# Altium schematic symbol library msp430.SchLib: 7 symbols
Pins are listed as number, name and electrical type; pins without a type are passive.

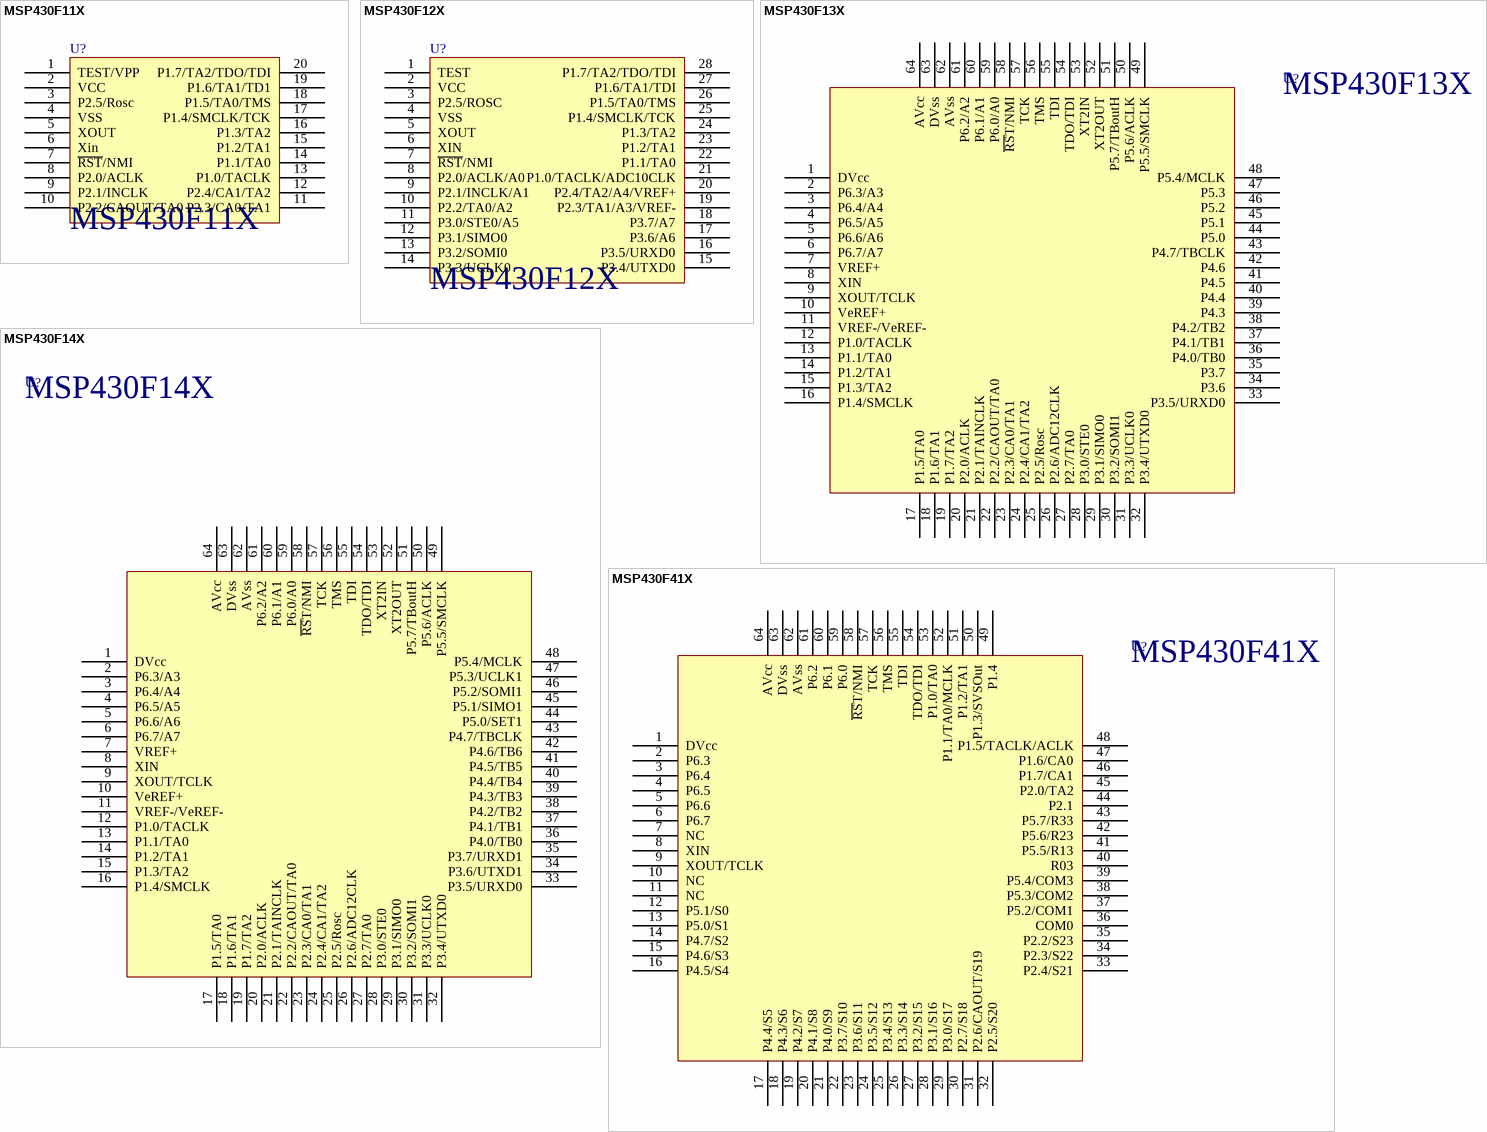
[diagram p0: symbols MSP430F11X to MSP430F41X]

## MSP430F11X
designator U?
footprint MSP11X
pins: 1 TEST/VPP, 2 VCC (power), 3 P2.5/Rosc (power), 4 VSS (power), 5 XOUT (power), 6 Xin (power), 7 ~{RST}/NMI (power), 8 P2.0/ACLK (power), 9 P2.1/INCLK (power), 10 P2.2/CAOUT/TA0 (power), 11 P2.3/CA0/TA1 (power), 12 P2.4/CA1/TA2 (power), 13 P1.0/TACLK (power), 14 P1.1/TA0 (power), 15 P1.2/TA1 (power), 16 P1.3/TA2 (power), 17 P1.4/SMCLK/TCK (power), 18 P1.5/TA0/TMS (power), 19 P1.6/TA1/TD1 (power), 20 P1.7/TA2/TDO/TDI (power)

## MSP430F12X
designator U?
footprint MSP12X
pins: 1 TEST, 2 VCC, 3 P2.5/ROSC, 4 VSS, 5 XOUT, 6 XIN, 7 ~{RST}/NMI, 8 P2.0/ACLK/A0, 9 P2.1/INCLK/A1, 10 P2.2/TA0/A2, 11 P3.0/STE0/A5, 12 P3.1/SIMO0, 13 P3.2/SOMI0, 14 P3.3/UCLK0, 15 P3.4/UTXD0, 16 P3.5/URXD0, 17 P3.6/A6, 18 P3.7/A7, 19 P2.3/TA1/A3/VREF-, 20 P2.4/TA2/A4/VREF+, 21 P1.0/TACLK/ADC10CLK, 22 P1.1/TA0, 23 P1.2/TA1, 24 P1.3/TA2, 25 P1.4/SMCLK/TCK, 26 P1.5/TA0/TMS, 27 P1.6/TA1/TDI, 28 P1.7/TA2/TDO/TDI

## MSP430F13X
designator U?
footprint MSP41X
pins: 1 DVcc (power), 2 P6.3/A3 (power), 3 P6.4/A4 (power), 4 P6.5/A5 (power), 5 P6.6/A6 (power), 6 P6.7/A7 (power), 7 VREF+ (power), 8 XIN (power), 9 XOUT/TCLK (power), 10 VeREF+ (power), 11 VREF-/VeREF- (power), 12 P1.0/TACLK (power), 13 P1.1/TA0 (power), 14 P1.2/TA1 (power), 15 P1.3/TA2 (power), 16 P1.4/SMCLK (power), 17 P1.5/TA0 (power), 18 P1.6/TA1 (power), 19 P1.7/TA2 (power), 20 P2.0/ACLK (power), 21 P2.1/TAINCLK (power), 22 P2.2/CAOUT/TA0 (power), 23 P2.3/CA0/TA1 (power), 24 P2.4/CA1/TA2 (power), 25 P2.5/Rosc (power), 26 P2.6/ADC12CLK (power), 27 P2.7/TA0 (power), 28 P3.0/STE0 (power), 29 P3.1/SIMO0 (power), 30 P3.2/SOMI1 (power), 31 P3.3/UCLK0 (power), 32 P3.4/UTXD0 (power), 33 P3.5/URXD0 (power), 34 P3.6 (power), 35 P3.7 (power), 36 P4.0/TB0 (power), 37 P4.1/TB1 (power), 38 P4.2/TB2 (power), 39 P4.3 (power), 40 P4.4 (power), 41 P4.5 (power), 42 P4.6 (power), 43 P4.7/TBCLK (power), 44 P5.0 (power), 45 P5.1 (power), 46 P5.2 (power), 47 P5.3 (power), 48 P5.4/MCLK (power), 49 P5.5/SMCLK (power), 50 P5.6/ACLK (power), 51 P5.7/TBoutH (power), 52 XT2OUT (power), 53 XT2IN (power), 54 TDO/TDI (power), 55 TDI (power), 56 TMS (power), 57 TCK (power), 58 ~{RS}T/NMI (power), 59 P6.0/A0 (power), 60 P6.1/A1 (power), 61 P6.2/A2 (power), 62 AVss (power), 63 DVss (power), 64 AVcc (power)

## MSP430F14X
designator U?
footprint SQFP50P1200X1200-64N (Shrink QFP, 64-Leads, Body 10x10mm, Pitch 0.5mm, IPC Medium Density)
pins: 1 DVcc (power), 2 P6.3/A3 (power), 3 P6.4/A4 (power), 4 P6.5/A5 (power), 5 P6.6/A6 (power), 6 P6.7/A7 (power), 7 VREF+ (power), 8 XIN (power), 9 XOUT/TCLK (power), 10 VeREF+ (power), 11 VREF-/VeREF- (power), 12 P1.0/TACLK (power), 13 P1.1/TA0 (power), 14 P1.2/TA1 (power), 15 P1.3/TA2 (power), 16 P1.4/SMCLK (power), 17 P1.5/TA0 (power), 18 P1.6/TA1 (power), 19 P1.7/TA2 (power), 20 P2.0/ACLK (power), 21 P2.1/TAINCLK (power), 22 P2.2/CAOUT/TA0 (power), 23 P2.3/CA0/TA1 (power), 24 P2.4/CA1/TA2 (power), 25 P2.5/Rosc (power), 26 P2.6/ADC12CLK (power), 27 P2.7/TA0 (power), 28 P3.0/STE0 (power), 29 P3.1/SIMO0 (power), 30 P3.2/SOMI1 (power), 31 P3.3/UCLK0 (power), 32 P3.4/UTXD0 (power), 33 P3.5/URXD0 (power), 34 P3.6/UTXD1 (power), 35 P3.7/URXD1 (power), 36 P4.0/TB0 (power), 37 P4.1/TB1 (power), 38 P4.2/TB2 (power), 39 P4.3/TB3 (power), 40 P4.4/TB4 (power), 41 P4.5/TB5 (power), 42 P4.6/TB6 (power), 43 P4.7/TBCLK (power), 44 P5.0/SET1 (power), 45 P5.1/SIMO1 (power), 46 P5.2/SOMI1 (power), 47 P5.3/UCLK1 (power), 48 P5.4/MCLK (power), 49 P5.5/SMCLK (power), 50 P5.6/ACLK (power), 51 P5.7/TBoutH (power), 52 XT2OUT (power), 53 XT2IN (power), 54 TDO/TDI (power), 55 TDI (power), 56 TMS (power), 57 TCK (power), 58 ~{RS}T/NMI (power), 59 P6.0/A0 (power), 60 P6.1/A1 (power), 61 P6.2/A2 (power), 62 AVss (power), 63 DVss (power), 64 AVcc (power)

## MSP430F41X
designator U?
footprint MSP41X
pins: 1 DVcc (power), 2 P6.3 (power), 3 P6.4 (power), 4 P6.5 (power), 5 P6.6 (power), 6 P6.7 (power), 7 NC (power), 8 XIN (power), 9 XOUT/TCLK (power), 10 NC (power), 11 NC (power), 12 P5.1/S0 (power), 13 P5.0/S1 (power), 14 P4.7/S2 (power), 15 P4.6/S3 (power), 16 P4.5/S4 (power), 17 P4.4/S5 (power), 18 P4.3/S6 (power), 19 P4.2/S7 (power), 20 P4.1/S8 (power), 21 P4.0/S9 (power), 22 P3.7/S10 (power), 23 P3.6/S11 (power), 24 P3.5/S12 (power), 25 P3.4/S13 (power), 26 P3.3/S14 (power), 27 P3.2/S15 (power), 28 P3.1/S16 (power), 29 P3.0/S17 (power), 30 P2.7/S18 (power), 31 P2.6/CAOUT/S19 (power), 32 P2.5/S20 (power), 33 P2.4/S21 (power), 34 P2.3/S22 (power), 35 P2.2/S23 (power), 36 COM0 (power), 37 P5.2/COM1 (power), 38 P5.3/COM2 (power), 39 P5.4/COM3 (power), 40 R03 (power), 41 P5.5/R13 (power), 42 P5.6/R23 (power), 43 P5.7/R33 (power), 44 P2.1 (power), 45 P2.0/TA2 (power), 46 P1.7/CA1 (power), 47 P1.6/CA0 (power), 48 P1.5/TACLK/ACLK (power), 49 P1.4 (power), 50 P1.3/SVSOut (power), 51 P1.2/TA1 (power), 52 P1.1/TA0/MCLK (power), 53 P1.0/TA0 (power), 54 TDO/TDI (power), 55 TDI (power), 56 TMS (power), 57 TCK (power), 58 ~{RS}T/NMI (power), 59 P6.0 (power), 60 P6.1 (power), 61 P6.2 (power), 62 AVss (power), 63 DVss (power), 64 AVcc (power)

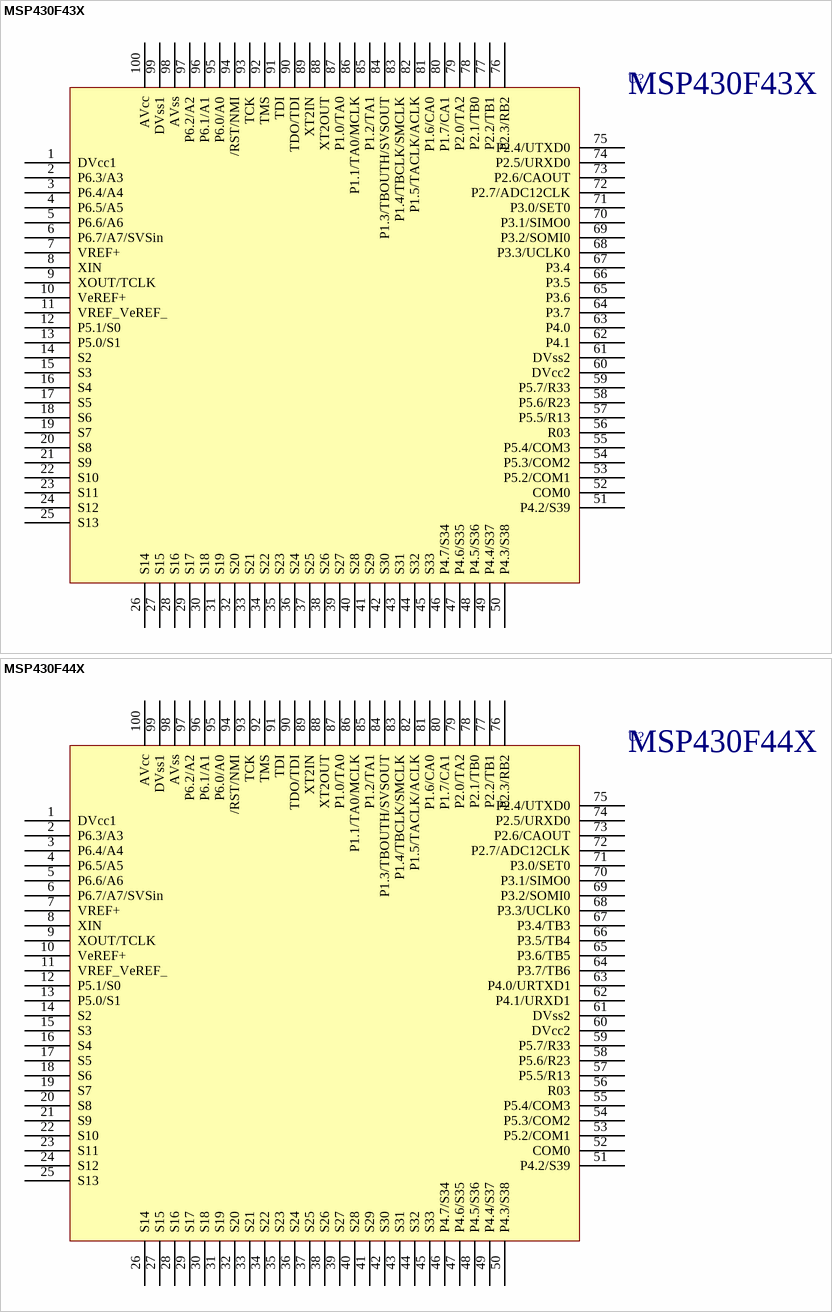
[diagram p1: symbols MSP430F43X to MSP430F44X]

## MSP430F43X
designator U?
footprint TQFP100
pins: 1 DVcc1, 2 P6.3/A3, 3 P6.4/A4, 4 P6.5/A5, 5 P6.6/A6, 6 P6.7/A7/SVSin, 7 VREF+, 8 XIN, 9 XOUT/TCLK, 10 VeREF+, 11 VREF_VeREF_, 12 P5.1/S0, 13 P5.0/S1, 14 S2, 15 S3, 16 S4, 17 S5, 18 S6, 19 S7, 20 S8, 21 S9, 22 S10, 23 S11, 24 S12, 25 S13, 26 S14, 27 S15, 28 S16, 29 S17, 30 S18, 31 S19, 32 S20, 33 S21, 34 S22, 35 S23, 36 S24, 37 S25, 38 S26, 39 S27, 40 S28, 41 S29, 42 S30, 43 S31, 44 S32, 45 S33, 46 P4.7/S34, 47 P4.6/S35, 48 P4.5/S36, 49 P4.4/S37, 50 P4.3/S38, 51 P4.2/S39, 52 COM0, 53 P5.2/COM1, 54 P5.3/COM2, 55 P5.4/COM3, 56 R03, 57 P5.5/R13, 58 P5.6/R23, 59 P5.7/R33, 60 DVcc2, 61 DVss2, 62 P4.1, 63 P4.0, 64 P3.7, 65 P3.6, 66 P3.5, 67 P3.4, 68 P3.3/UCLK0, 69 P3.2/SOMI0, 70 P3.1/SIMO0, 71 P3.0/SET0, 72 P2.7/ADC12CLK, 73 P2.6/CAOUT, 74 P2.5/URXD0, 75 P2.4/UTXD0, 76 P2.3/RB2, 77 P2.2/TB1, 78 P2.1/TB0, 79 P2.0/TA2, 80 P1.7/CA1, 81 P1.6/CA0, 82 P1.5/TACLK/ACLK, 83 P1.4/TBCLK/SMCLK, 84 P1.3/TBOUTH/SVSOUT, 85 P1.2/TA1, 86 P1.1/TA0/MCLK, 87 P1.0/TA0, 88 XT2OUT, 89 XT2IN, 90 TDO/TDI, 91 TDI, 92 TMS, 93 TCK, 94 /RST/NMI, 95 P6.0/A0, 96 P6.1/A1, 97 P6.2/A2, 98 AVss, 99 DVss1, 100 AVcc

## MSP430F44X
designator U?
footprint TQFP100
pins: 1 DVcc1, 2 P6.3/A3, 3 P6.4/A4, 4 P6.5/A5, 5 P6.6/A6, 6 P6.7/A7/SVSin, 7 VREF+, 8 XIN, 9 XOUT/TCLK, 10 VeREF+, 11 VREF_VeREF_, 12 P5.1/S0, 13 P5.0/S1, 14 S2, 15 S3, 16 S4, 17 S5, 18 S6, 19 S7, 20 S8, 21 S9, 22 S10, 23 S11, 24 S12, 25 S13, 26 S14, 27 S15, 28 S16, 29 S17, 30 S18, 31 S19, 32 S20, 33 S21, 34 S22, 35 S23, 36 S24, 37 S25, 38 S26, 39 S27, 40 S28, 41 S29, 42 S30, 43 S31, 44 S32, 45 S33, 46 P4.7/S34, 47 P4.6/S35, 48 P4.5/S36, 49 P4.4/S37, 50 P4.3/S38, 51 P4.2/S39, 52 COM0, 53 P5.2/COM1, 54 P5.3/COM2, 55 P5.4/COM3, 56 R03, 57 P5.5/R13, 58 P5.6/R23, 59 P5.7/R33, 60 DVcc2, 61 DVss2, 62 P4.1/URXD1, 63 P4.0/URTXD1, 64 P3.7/TB6, 65 P3.6/TB5, 66 P3.5/TB4, 67 P3.4/TB3, 68 P3.3/UCLK0, 69 P3.2/SOMI0, 70 P3.1/SIMO0, 71 P3.0/SET0, 72 P2.7/ADC12CLK, 73 P2.6/CAOUT, 74 P2.5/URXD0, 75 P2.4/UTXD0, 76 P2.3/RB2, 77 P2.2/TB1, 78 P2.1/TB0, 79 P2.0/TA2, 80 P1.7/CA1, 81 P1.6/CA0, 82 P1.5/TACLK/ACLK, 83 P1.4/TBCLK/SMCLK, 84 P1.3/TBOUTH/SVSOUT, 85 P1.2/TA1, 86 P1.1/TA0/MCLK, 87 P1.0/TA0, 88 XT2OUT, 89 XT2IN, 90 TDO/TDI, 91 TDI, 92 TMS, 93 TCK, 94 /RST/NMI, 95 P6.0/A0, 96 P6.1/A1, 97 P6.2/A2, 98 AVss, 99 DVss1, 100 AVcc